# Altium footprint library JST_SM04B-GHS-TB(LF)(SN)-.PcbLib: 1 footprints
Each footprint in its own frame and in the unit in brackets; x right, y up, seen from the top. Pads: shape width x height; smd on the part's side, far side on the other; paste and mask are expansions set on the pad; w line width, h text height; cw(c..) or ccw(c..) is an arc to the next point about the centre after c.
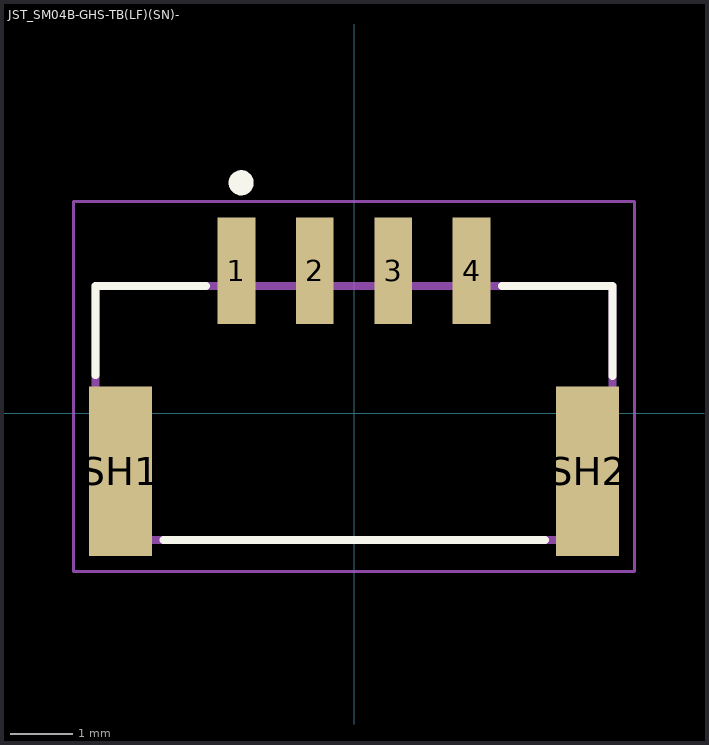
[diagram p0: the footprint, top view; thin cyan lines are the x and y axes]

## JST_SM04B-GHS-TB(LF)(SN)- [mm]
pads (6):
  rect 0.6x1.7 smd: 1(-1.875,2.275) 2(-0.625,2.275) 3(0.625,2.275) 4(1.875,2.275)
  rect 1x2.7 smd: SH1(-3.725,-0.925) SH2(3.725,-0.925)
Top Overlay:
  circle w0.2: c-1.8,3.675 r0.1
  lines w0.127: -4.125,0.605 -4.125,2.025 -2.36,2.025 ; -3.04,-2.025 3.05,-2.025 ; 2.36,2.025 4.125,2.025 4.125,0.595
Assembly Top:
  circle w0.2: c-1.8,2.675 r0.1
  lines w0.127: -4.125,-2.025 4.125,-2.025 4.125,2.025 -4.125,2.025 -4.125,-2.025
Courtyard Top:
  lines w0.05: -4.475,-2.525 4.475,-2.525 4.475,3.375 -4.475,3.375 -4.475,-2.525
3D body "step_temp.STEP": height 4.35, standoff 0, extent -4.125,-2.032 4.125,2.818